# Altium schematic symbol library LTC2373_Schematic.SchLib: 1 symbol
Pins are listed as number, name and electrical type; pins without a type are passive.

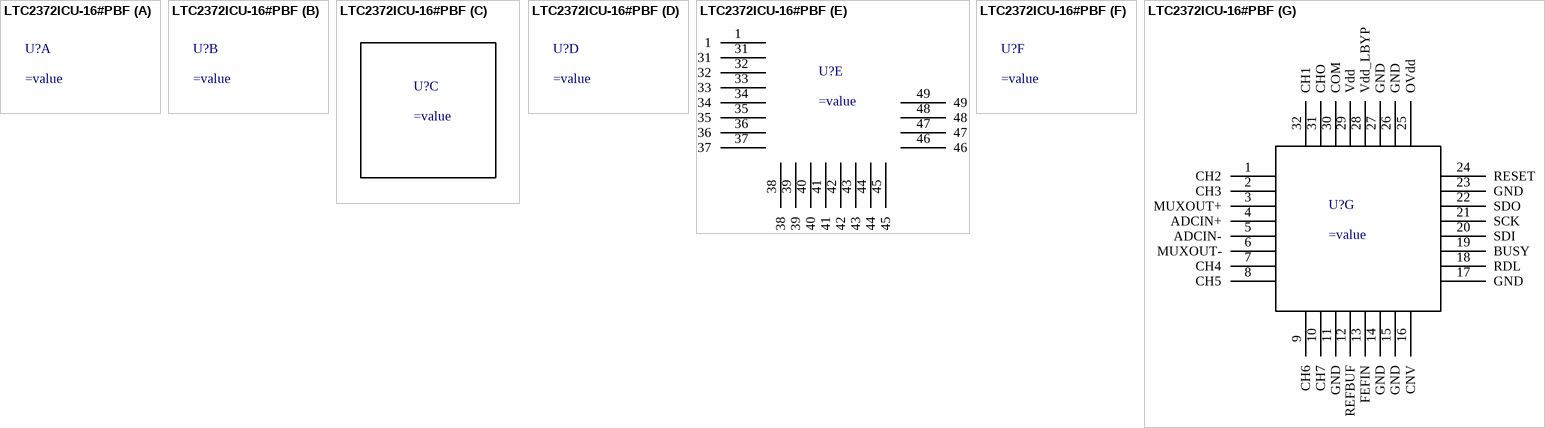
[diagram p0: symbol LTC2372ICU-16#PBF]

## LTC2372ICU-16#PBF
designator U?
part E pins: 1, 31, 32, 33, 34, 35, 36, 37, 38, 39, 40, 41, 42, 43, 44, 45, 46, 47, 48, 49
part G pins: 1 CH2, 2 CH3, 3 MUXOUT+, 4 ADCIN+, 5 ADCIN-, 6 MUXOUT-, 7 CH4, 8 CH5, 9 CH6, 10 CH7, 11 GND, 12 REFBUF, 13 FEFIN, 14 GND, 15 GND, 16 CNV, 17 GND, 18 RDL, 19 BUSY, 20 SDI, 21 SCK, 22 SDO, 23 GND, 24 RESET, 25 OVdd, 26 GND, 27 GND, 28 Vdd_LBYP, 29 Vdd, 30 COM, 31 CHO, 32 CH1